# Altium footprint library SamacSys.PcbLib: 48 footprints (part 1 of 3)
Each footprint in its own frame and in the unit in brackets; x right, y up, seen from the top. Pads: shape width x height; smd on the part's side, far side on the other; paste and mask are expansions set on the pad; w line width, h text height; cw(c..) or ccw(c..) is an arc to the next point about the centre after c.
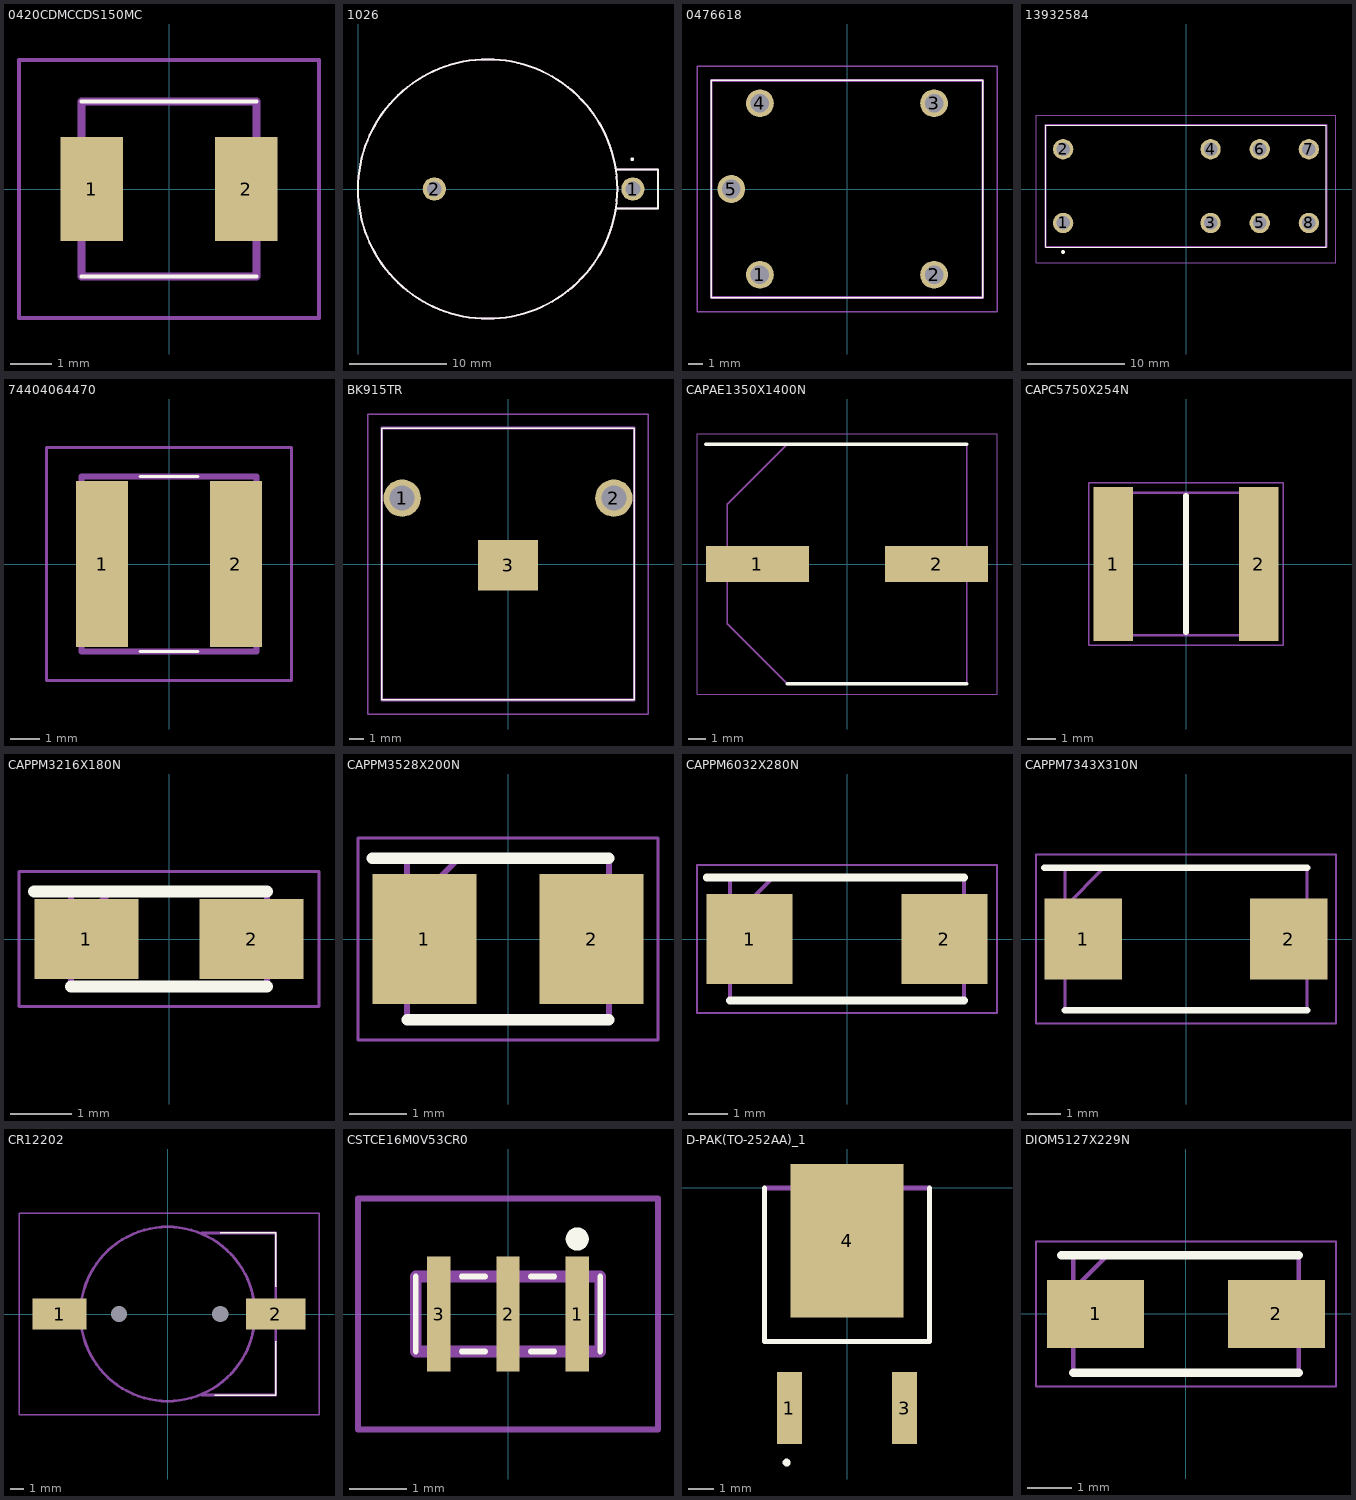
[diagram p0: the footprints below, top view; thin cyan lines are the x and y axes]

## 0420CDMCCDS150MC [mm]
pads (2):
  rect 1.5x2.5 smd: 1(-1.85,0) 2(1.85,0)
Top Overlay:
  lines w0.1: -2.1,-2.1 2.1,-2.1 ; -2.1,2.1 2.1,2.1
Mechanical 13:
  lines w0.2: -2.1,-2.1 2.1,-2.1 2.1,2.1 -2.1,2.1 -2.1,-2.1
Mechanical 15:
  lines w0.1: -3.6,-3.1 3.6,-3.1 3.6,3.1 -3.6,3.1 -3.6,-3.1
3D body "0420CDMCCDS-150MC.stp": height 2.1, standoff 0, extent -2.45,-2.1 2.45,2.1

## 1026 [mm]
pads (2):
  round 2.4 hole 1.52: 1(28.37,0) 2(7.88,0)
Top Overlay:
  circle w0.2: c28.311,3.066 r0.097
  circle w0.2: c13.38,0 r13.38
  lines w0.2: 26.7,-2 30.96,-2 30.96,2 26.7,2
Mechanical 13:
  circle w0.2: c13.38,0 r13.38
  lines w0.2: 26.7,-2 30.96,-2 30.96,2 26.7,2

## 0476618 [mm]
pads (5):
  round 1.95 hole 1.3: 1(-6.1,-6) 2(6.1,-6) 3(6.1,6) 4(-6.1,6) 5(-8.1,0)
Top Overlay:
  lines w0.1: -9.5,-7.6 -9.5,7.6 9.5,7.6 9.5,-7.6 -9.5,-7.6
Mechanical 13:
  lines w0.2: -9.5,-7.6 -9.5,7.6 9.5,7.6 9.5,-7.6 -9.5,-7.6
Mechanical 15:
  lines w0.1: -10.5,-8.6 -10.5,8.6 10.5,8.6 10.5,-8.6 -10.5,-8.6
3D body "0476618.stp": height 15, standoff -5, extent -9.5,-7.6 9.5,7.6

## 13932584 [mm]
pads (8):
  round 2.1 hole 1.4: 1(-12.7,-3.51) 2(-12.7,4.11) 3(2.54,-3.51) 4(2.54,4.11) 5(7.62,-3.51) 6(7.62,4.11) 7(12.7,4.11) 8(12.7,-3.51)
Top Overlay:
  lines w0.1: -14.5,-6 -14.5,6.6 14.5,6.6 14.5,-6 -14.5,-6
  lines w0.2: -12.8,-6.5 ccw(c-12.7,-6.5) -12.6,-6.5 ccw(c-12.7,-6.5) -12.8,-6.5
Mechanical 13:
  lines w0.2: -14.5,-6 -14.5,6.6 14.5,6.6 14.5,-6 -14.5,-6
Mechanical 15:
  lines w0.1: -15.5,-7.6 -15.5,7.6 15.5,7.6 15.5,-7.6 -15.5,-7.6
3D body "1-1393258-5.stp": height 25, standoff -5, extent -14.5,-6 14.5,6.6

## 74404064470 [mm]
pads (2):
  rect 1.8x5.7 smd: 1(-2.3,0) 2(2.3,0)
Top Overlay:
  lines w0.1: -1,-3 1,-3 ; -1,3 1,3
Mechanical 13:
  lines w0.2: -3,-3 3,-3 3,3 -3,3 -3,-3
Mechanical 15:
  lines w0.1: -4.2,-4 4.2,-4 4.2,4 -4.2,4 -4.2,-4
3D body "74404064100.stp": height 4.1, standoff 0, extent -3.02,-3 3.02,3

## BK915TR [mm]
pads (3):
  round 2.67 hole 1.78: 1(-7.55,4.7) 2(7.55,4.7)
  rect 4.3x3.6 smd: 3(0,-0.1)
Top Overlay:
  lines w0.1: -9,-9.7 9,-9.7 9,9.7 -9,9.7 -9,-9.7
Mechanical 13:
  lines w0.2: -9,-9.7 -9,9.7 9,9.7 9,-9.7 -9,-9.7
Mechanical 15:
  lines w0.1: -10,-10.7 10,-10.7 10,10.7 -10,10.7 -10,-10.7
3D body "BK-915-TR.stp": height 3.1, standoff -5, extent -9,-9.7 9,9.7

## CAPAE1350X1400N [mm]
pads (2):
  rect 5.8x2.05 smd: 1(-5.05,0) 2(5.05,0)
Top Overlay:
  lines w0.2: -7.95,6.75 6.75,6.75 ; -3.375,-6.75 6.75,-6.75
Mechanical 13:
  lines w0.1: -6.75,-3.375 -3.375,-6.75 6.75,-6.75 6.75,6.75 -3.375,6.75 -6.75,3.375 -6.75,-3.375
Mechanical 15:
  lines w0.05: -8.45,-7.35 -8.45,7.35 8.45,7.35 8.45,-7.35 -8.45,-7.35
3D body "865060462010.stp": height 14, standoff 0, extent -7.225,-6.85 7.225,6.85

## CAPC5750X254N [mm]
pads (2):
  rect 1.39x5.41 smd: 1(-2.56,0) 2(2.56,0)
Top Overlay:
  lines w0.2: 0,-2.4 0,2.4
Mechanical 13:
  lines w0.1: -2.85,-2.5 -2.85,2.5 2.85,2.5 2.85,-2.5 -2.85,-2.5
Mechanical 15:
  lines w0.05: -3.405,-2.86 -3.405,2.86 3.405,2.86 3.405,-2.86 -3.405,-2.86
3D body "22201C106MAT2A.stp": height 2.54, standoff 0, extent -2.85,-2.5 2.85,2.5

## CAPPM3216X180N [mm]
pads (2):
  rect 1.7x1.3 smd: 1(-1.35,0) 2(1.35,0)
Top Overlay:
  lines w0.2: -2.2,0.775 1.6,0.775 ; -1.6,-0.775 1.6,-0.775
Mechanical 13:
  lines w0.1: -1.6,0.125 -0.95,0.775 ; -1.6,-0.775 -1.6,0.775 1.6,0.775 1.6,-0.775 -1.6,-0.775
Mechanical 15:
  lines w0.05: -2.45,-1.1 -2.45,1.1 2.45,1.1 2.45,-1.1 -2.45,-1.1
3D body "TAJA475M025RNJ.stp": height 1.8, standoff 0, extent -1.6,-0.775 1.6,0.775

## CAPPM3528X200N [mm]
pads (2):
  rect 1.8x2.25 smd: 1(-1.45,0) 2(1.45,0)
Top Overlay:
  lines w0.2: -2.35,1.4 1.75,1.4 ; -1.75,-1.4 1.75,-1.4
Mechanical 13:
  lines w0.1: -1.75,0.5 -0.85,1.4 ; -1.75,-1.4 -1.75,1.4 1.75,1.4 1.75,-1.4 -1.75,-1.4
Mechanical 15:
  lines w0.05: -2.6,-1.75 -2.6,1.75 2.6,1.75 2.6,-1.75 -2.6,-1.75
3D body "T521B226M025ATE1007280.stp": height 2, standoff 0, extent -1.75,-1.4 1.75,1.4

## CAPPM6032X280N [mm]
pads (2):
  rect 2.2x2.3 smd: 1(-2.5,0) 2(2.5,0)
Top Overlay:
  lines w0.2: -3.6,1.575 3,1.575 ; -3,-1.575 3,-1.575
Mechanical 13:
  lines w0.1: -3,0.475 -1.9,1.575 ; -3,-1.575 -3,1.575 3,1.575 3,-1.575 -3,-1.575
Mechanical 15:
  lines w0.05: -3.85,-1.9 -3.85,1.9 3.85,1.9 3.85,-1.9 -3.85,-1.9
3D body "TAJC226K025RNJ.stp": height 2.8, standoff 0, extent -3,-1.575 3,1.575

## CAPPM7343X310N [mm]
pads (2):
  rect 2.35x2.45 smd: 1(-3.1,0) 2(3.1,0)
Top Overlay:
  lines w0.2: -4.275,2.15 3.65,2.15 ; -3.65,-2.15 3.65,-2.15
Mechanical 13:
  lines w0.1: -3.65,0.975 -2.475,2.15 ; -3.65,-2.15 -3.65,2.15 3.65,2.15 3.65,-2.15 -3.65,-2.15
Mechanical 15:
  lines w0.05: -4.525,-2.55 -4.525,2.55 4.525,2.55 4.525,-2.55 -4.525,-2.55
3D body "T494D106K035AH.stp": height 3.1, standoff 0, extent -3.65,-2.15 3.65,2.15

## CR12202 [mm]
pads (4):
  rect 4x2.3 smd: 1(-8,0)
  rect 4.4x2.3 smd: 2(8,0)
  round 0.6 hole 1.2 unplated: MH1(-3.6,0) MH2(3.9,0)
Top Overlay:
  lines w0.1: 3.5,-6 8,-6 8,-2 ; 3.9,6 8,6 8,2
Mechanical 13:
  lines w0.2: 2.5,-6 8,-6 8,6 2.5,6 ; 0,-6.45 ccw(c0,0) 0,6.45 ccw(c0,0) 0,-6.45
Mechanical 15:
  lines w0.1: -11,-7.45 -11,7.45 11.2,7.45 11.2,-7.45 -11,-7.45

## CSTCE16M0V53CR0 [mm]
pads (3):
  rect 0.4x2 smd: 1(1.2,0) 2(0,0) 3(-1.2,0)
Top Overlay:
  lines w0.1: -1.6,-0.65 -1.6,0.65 ; -0.8,-0.65 -0.4,-0.65 ; -0.8,0.65 -0.4,0.65 ; 0.4,-0.65 0.8,-0.65 ; 0.4,0.65 0.8,0.65 ; 1.6,-0.65 1.6,0.65
  lines w0.2: 1.1,1.3 cw(c1.2,1.3) 1.3,1.3 cw(c1.2,1.3) 1.1,1.3
Mechanical 13:
  lines w0.2: -1.6,-0.65 1.6,-0.65 1.6,0.65 -1.6,0.65 -1.6,-0.65
Mechanical 15:
  lines w0.1: -2.6,-2 2.6,-2 2.6,2 -2.6,2 -2.6,-2

## D-PAK(TO-252AA)_1 [mm]
pads (3):
  rect 1x2.85 smd: 1(-2.29,-8.75) 3(2.29,-8.75)
  rect 4.5x6.1 smd: 4(0,-2.1)
Top Overlay:
  circle w0.2: c-2.401,-10.916 r0.057
  lines w0.2: -3.27,0 -3.27,-6.1 3.27,-6.1 3.27,0
Mechanical 13:
  lines w0.2: -3.27,-6.1 3.27,-6.1 3.27,0 -3.27,0 -3.27,-6.1

## DIOM5127X229N [mm]
pads (2):
  rect 2.2x1.55 smd: 1(-2.05,0) 2(2.05,0)
Top Overlay:
  lines w0.2: -2.825,1.332 2.552,1.332 ; -2.552,-1.332 2.552,-1.332
Mechanical 13:
  lines w0.1: -2.552,0.558 -1.778,1.332 ; -2.552,-1.332 2.552,-1.332 2.552,1.332 -2.552,1.332 -2.552,-1.332
Mechanical 15:
  lines w0.05: -3.4,-1.645 3.4,-1.645 3.4,1.645 -3.4,1.645 -3.4,-1.645
3D body "SS14-E3_61T.stp": height 2.29, standoff 0, extent -2.552,-1.332 2.552,1.332